# Altium schematic symbol library Schlib_Elektrodetal.SchLib: 3 symbols
Pins are listed as number, name and electrical type; pins without a type are passive.

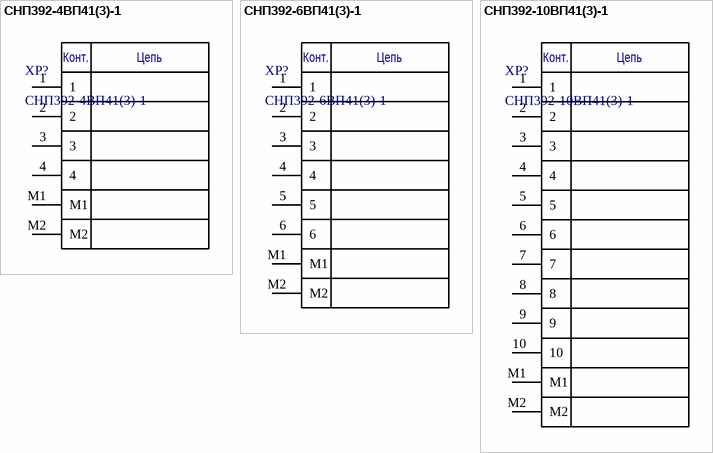
[diagram p0: symbols СНП392-4ВП41(3)-1 to СНП392-10ВП41(3)-1]

## СНП392-4ВП41(3)-1
designator XP?
Manufacturer: ОАО "КАРАЧЕВСКИЙ ЗАВОД ’’ЭЛЕКТРОДЕТАЛЬ”; Designator: XP*; ТУ: РЮМК.430420.037ТУ; Part Number: СНП392-4ВП41(3)-1
footprint SNP392-4VP41(3)-1
pins: 1, 2, 3, 4, M1, M2
text: Конт.; Цепь

## СНП392-6ВП41(3)-1
designator XP?
Manufacturer: ОАО "КАРАЧЕВСКИЙ ЗАВОД ’’ЭЛЕКТРОДЕТАЛЬ”; Designator: XP*; ТУ: РЮМК.430420.037ТУ; Part Number: СНП392-6ВП41(3)-1
footprint SNP392-6VP41(3)-1
pins: 1, 2, 3, 4, 5, 6, M1, M2
text: Конт.; Цепь

## СНП392-10ВП41(3)-1
designator XP?
Manufacturer: ОАО "КАРАЧЕВСКИЙ ЗАВОД ’’ЭЛЕКТРОДЕТАЛЬ”; Designator: XP*; Part Number: СНП392-10ВП41(3)-1; ТУ: СНП392-10ВП41(3)-1
footprint SNP392-10VP41(3)-1
pins: 1, 2, 3, 4, 5, 6, 7, 8, 9, 10, M1, M2
text: Конт.; Цепь